# Altium integrated library Actel ProASIC3.IntLib: 427 symbols (part 10 of 68)
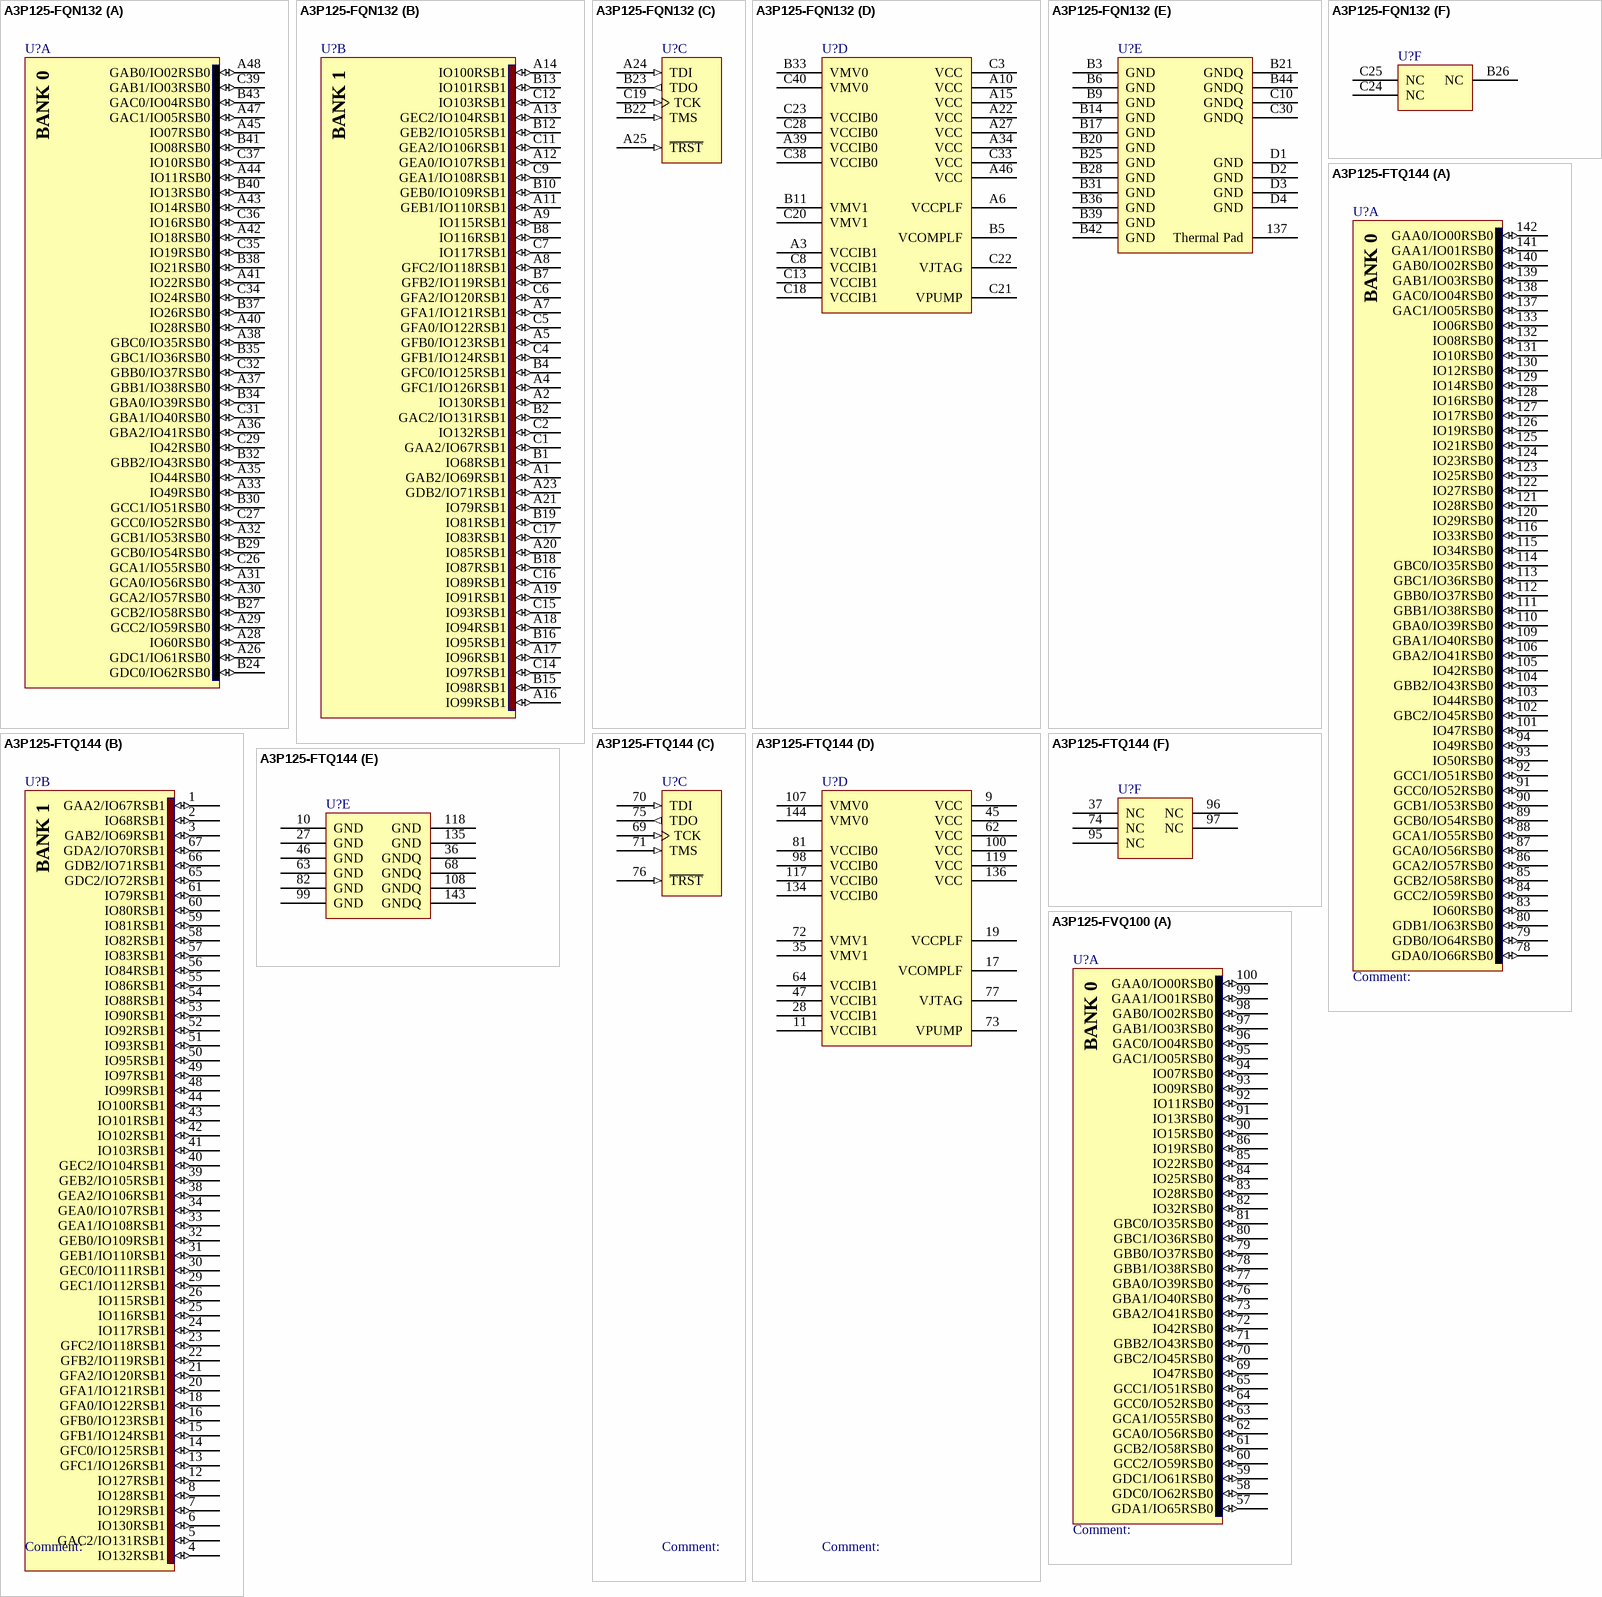
[diagram p405: symbols A3P125-FQN132 to A3P125-FVQ100]

## A3P125-FQN132
designator U?
ProASIC3 Flash Family FPGA, 84 User IOs, 125K System Gates, 36 Kbits RAM, 1 Kbit ProASIC3 Flash ROM, 1 PLL, 132-Pin QFN, Commercial Grade; Published: 30-Mar-2007; DatasheetVersion: v1.1, Feb-2009; PackageVersion: v11.0, Feb-2009; PackageReference: QN132; Publisher: Altium Limited; PackageDescription: 132-Pin Quad Flat Pack No-Leads (QN132); ComponentLink1Description: Manufacturer Link; ComponentLink1URL: http://www.actel.com/products/pa3/; ComponentLink2Description: Datasheet; ComponentLink2URL: http://www.actel.com/documents/PA3_DS.pdf; ComponentLink3Description: Packaging Specification; ComponentLink3URL: http://www.actel.com/documents/PckgMechDrwngs.pdf
footprint QN132 (QFN, 132-Leads, Body 8x8mm, Pitch 0.5mm)
3D model A3P125-QN132 (132-Pin Quad Flat Pack No-Leads (QN132))
signal-integrity model A3P125_QN132 (ProASIC3)
part A pins:  A26 GDC1/IO61RSB0 (io),  A28 IO60RSB0 (io),  A29 GCC2/IO59RSB0 (io),  A30 GCA2/IO57RSB0 (io),  A31 GCA0/IO56RSB0 (io),  A32 GCB1/IO53RSB0 (io),  A33 IO49RSB0 (io),  A35 IO44RSB0 (io),  A36 GBA2/IO41RSB0 (io),  A37 GBB1/IO38RSB0 (io),  A38 GBC0/IO35RSB0 (io),  A40 IO28RSB0 (io),  A41 IO22RSB0 (io),  A42 IO18RSB0 (io),  A43 IO14RSB0 (io),  A44 IO11RSB0 (io),  A45 IO07RSB0 (io),  A47 GAC1/IO05RSB0 (io),  A48 GAB0/IO02RSB0 (io),  B24 GDC0/IO62RSB0 (io),  B27 GCB2/IO58RSB0 (io),  B29 GCB0/IO54RSB0 (io),  B30 GCC1/IO51RSB0 (io),  B32 GBB2/IO43RSB0 (io),  B34 GBA0/IO39RSB0 (io),  B35 GBC1/IO36RSB0 (io),  B37 IO26RSB0 (io),  B38 IO21RSB0 (io),  B40 IO13RSB0 (io),  B41 IO08RSB0 (io),  B43 GAC0/IO04RSB0 (io),  C26 GCA1/IO55RSB0 (io),  C27 GCC0/IO52RSB0 (io),  C29 IO42RSB0 (io),  C31 GBA1/IO40RSB0 (io),  C32 GBB0/IO37RSB0 (io),  C34 IO24RSB0 (io),  C35 IO19RSB0 (io),  C36 IO16RSB0 (io),  C37 IO10RSB0 (io),  C39 GAB1/IO03RSB0 (io)
part B pins:  A1 GAB2/IO69RSB1 (io),  A2 IO130RSB1 (io),  A4 GFC1/IO126RSB1 (io),  A5 GFB0/IO123RSB1 (io),  A7 GFA1/IO121RSB1 (io),  A8 GFC2/IO118RSB1 (io),  A9 IO115RSB1 (io),  A11 GEB1/IO110RSB1 (io),  A12 GEA0/IO107RSB1 (io),  A13 GEC2/IO104RSB1 (io),  A14 IO100RSB1 (io),  A16 IO99RSB1 (io),  A17 IO96RSB1 (io),  A18 IO94RSB1 (io),  A19 IO91RSB1 (io),  A20 IO85RSB1 (io),  A21 IO79RSB1 (io),  A23 GDB2/IO71RSB1 (io),  B1 IO68RSB1 (io),  B2 GAC2/IO131RSB1 (io),  B4 GFC0/IO125RSB1 (io),  B7 GFB2/IO119RSB1 (io),  B8 IO116RSB1 (io),  B10 GEB0/IO109RSB1 (io),  B12 GEB2/IO105RSB1 (io),  B13 IO101RSB1 (io),  B15 IO98RSB1 (io),  B16 IO95RSB1 (io),  B18 IO87RSB1 (io),  B19 IO81RSB1 (io),  C1 GAA2/IO67RSB1 (io),  C2 IO132RSB1 (io),  C4 GFB1/IO124RSB1 (io),  C5 GFA0/IO122RSB1 (io),  C6 GFA2/IO120RSB1 (io),  C7 IO117RSB1 (io),  C9 GEA1/IO108RSB1 (io),  C11 GEA2/IO106RSB1 (io),  C12 IO103RSB1 (io),  C14 IO97RSB1 (io),  C15 IO93RSB1 (io),  C16 IO89RSB1 (io),  C17 IO83RSB1 (io)
part C pins:  A24 TDI (in),  A25 ~{TRST} (in),  B22 TMS (in),  B23 TDO (out),  C19 TCK (in)
part D pins:  A3 VCCIB1 (power),  A6 VCCPLF (power),  A10 VCC (power),  A15 VCC (power),  A22 VCC (power),  A27 VCC (power),  A34 VCC (power),  A39 VCCIB0 (power),  A46 VCC (power),  B5 VCOMPLF (power),  B33 VMV0 (power),  C3 VCC (power),  C8 VCCIB1 (power),  C13 VCCIB1 (power),  C18 VCCIB1 (power),  C20 VMV1 (power),  C21 VPUMP (power),  C22 VJTAG (power),  C23 VCCIB0 (power),  C28 VCCIB0 (power),  C33 VCC (power),  C38 VCCIB0 (power), B11 VMV1 (power), C40 VMV0 (power)
part E pins: 137 Thermal Pad (power),  B3 GND (power),  B6 GND (power),  B9 GND (power),  B14 GND (power),  B17 GND (power),  B20 GND (power),  B21 GNDQ (power),  B25 GND (power),  B28 GND (power),  B31 GND (power),  B36 GND (power),  B39 GND (power),  B42 GND (power),  B44 GNDQ (power),  C10 GNDQ (power),  C30 GNDQ (power),  D1 GND (power),  D2 GND (power),  D3 GND (power),  D4 GND (power)
part F pins: B26 NC, C24 NC, C25 NC
part A text: BANK 0
part B text: BANK 1

## A3P125-FTQ144
designator U?
ProASIC3 Flash Family FPGA, 100 User IOs, 125K System Gates, 36 Kbits RAM, 1 Kbit Flash ROM, 1 PLL, 144-Pin TQFP, Commercial Grade; Published: 4-Mar-2005; LatestRevisionDate: 13-Apr-2006; LatestRevisionNote: IPC-7351 Footprint Added.; DatasheetVersion: v1.1, Feb-2009; PackageVersion: v11.0, Feb-2009; PackageReference: TQ144; Publisher: Altium Limited; PackageDescription: 144-Pin Plastic Quad Flat Pack (TQ144); Code_JEDEC: MS-026-BFB; ComponentLink1Description: Manufacturer Link; ComponentLink1URL: http://www.actel.com/products/pa3/; ComponentLink2Description: Datasheet; ComponentLink2URL: http://www.actel.com/documents/PA3_DS.pdf; ComponentLink3Description: Packaging Specification; ComponentLink3URL: http://www.actel.com/documents/PckgMechDrwngs.pdf
footprint TQ144_N (Thin QFP, 144-Leads, Body 20x20mm, Pitch 0.5mm, IPC Medium Density)
footprint TQ144_L (Thin QFP, 144-Leads, Body 20x20mm, Pitch 0.5mm, IPC High Density)
footprint TQ144_M (Thin QFP, 144-Leads, Body 20x20mm, Pitch 0.5mm, IPC Low Density)
3D model A3P125-TQ144 (144-Pin Plastic Quad Flat Pack (TQ144))
signal-integrity model A3P125_TQ144 (ProASIC3)
part A pins: 78 GDA0/IO66RSB0 (io), 79 GDB0/IO64RSB0 (io), 80 GDB1/IO63RSB0 (io), 83 IO60RSB0 (io), 84 GCC2/IO59RSB0 (io), 85 GCB2/IO58RSB0 (io), 86 GCA2/IO57RSB0 (io), 87 GCA0/IO56RSB0 (io), 88 GCA1/IO55RSB0 (io), 89 GCB0/IO54RSB0 (io), 90 GCB1/IO53RSB0 (io), 91 GCC0/IO52RSB0 (io), 92 GCC1/IO51RSB0 (io), 93 IO50RSB0 (io), 94 IO49RSB0 (io), 101 IO47RSB0 (io), 102 GBC2/IO45RSB0 (io), 103 IO44RSB0 (io), 104 GBB2/IO43RSB0 (io), 105 IO42RSB0 (io), 106 GBA2/IO41RSB0 (io), 109 GBA1/IO40RSB0 (io), 110 GBA0/IO39RSB0 (io), 111 GBB1/IO38RSB0 (io), 112 GBB0/IO37RSB0 (io), 113 GBC1/IO36RSB0 (io), 114 GBC0/IO35RSB0 (io), 115 IO34RSB0 (io), 116 IO33RSB0 (io), 120 IO29RSB0 (io), 121 IO28RSB0 (io), 122 IO27RSB0 (io), 123 IO25RSB0 (io), 124 IO23RSB0 (io), 125 IO21RSB0 (io), 126 IO19RSB0 (io), 127 IO17RSB0 (io), 128 IO16RSB0 (io), 129 IO14RSB0 (io), 130 IO12RSB0 (io), 131 IO10RSB0 (io), 132 IO08RSB0 (io), 133 IO06RSB0 (io), 137 GAC1/IO05RSB0 (io), 138 GAC0/IO04RSB0 (io), 139 GAB1/IO03RSB0 (io), 140 GAB0/IO02RSB0 (io), 141 GAA1/IO01RSB0 (io), 142 GAA0/IO00RSB0 (io)
part B pins: 1 GAA2/IO67RSB1 (io), 2 IO68RSB1 (io), 3 GAB2/IO69RSB1 (io), 4 IO132RSB1 (io), 5 GAC2/IO131RSB1 (io), 6 IO130RSB1 (io), 7 IO129RSB1 (io), 8 IO128RSB1 (io), 12 IO127RSB1 (io), 13 GFC1/IO126RSB1 (io), 14 GFC0/IO125RSB1 (io), 15 GFB1/IO124RSB1 (io), 16 GFB0/IO123RSB1 (io), 18 GFA0/IO122RSB1 (io), 20 GFA1/IO121RSB1 (io), 21 GFA2/IO120RSB1 (io), 22 GFB2/IO119RSB1 (io), 23 GFC2/IO118RSB1 (io), 24 IO117RSB1 (io), 25 IO116RSB1 (io), 26 IO115RSB1 (io), 29 GEC1/IO112RSB1 (io), 30 GEC0/IO111RSB1 (io), 31 GEB1/IO110RSB1 (io), 32 GEB0/IO109RSB1 (io), 33 GEA1/IO108RSB1 (io), 34 GEA0/IO107RSB1 (io), 38 GEA2/IO106RSB1 (io), 39 GEB2/IO105RSB1 (io), 40 GEC2/IO104RSB1 (io), 41 IO103RSB1 (io), 42 IO102RSB1 (io), 43 IO101RSB1 (io), 44 IO100RSB1 (io), 48 IO99RSB1 (io), 49 IO97RSB1 (io), 50 IO95RSB1 (io), 51 IO93RSB1 (io), 52 IO92RSB1 (io), 53 IO90RSB1 (io), 54 IO88RSB1 (io), 55 IO86RSB1 (io), 56 IO84RSB1 (io), 57 IO83RSB1 (io), 58 IO82RSB1 (io), 59 IO81RSB1 (io), 60 IO80RSB1 (io), 61 IO79RSB1 (io), 65 GDC2/IO72RSB1 (io), 66 GDB2/IO71RSB1 (io), 67 GDA2/IO70RSB1 (io)
part C pins: 69 TCK (in), 70 TDI (in), 71 TMS (in), 75 TDO (out), 76 ~{TRST} (in)
part D pins: 9 VCC (power), 11 VCCIB1 (power), 17 VCOMPLF (power), 19 VCCPLF (power), 28 VCCIB1 (power), 35 VMV1 (power), 45 VCC (power), 47 VCCIB1 (power), 62 VCC (power), 64 VCCIB1 (power), 72 VMV1 (power), 73 VPUMP (power), 77 VJTAG (power), 81 VCCIB0 (power), 98 VCCIB0 (power), 100 VCC (power), 107 VMV0 (power), 117 VCCIB0 (power), 119 VCC (power), 134 VCCIB0 (power), 136 VCC (power), 144 VMV0 (power)
part E pins: 10 GND (power), 27 GND (power), 36 GNDQ (power), 46 GND (power), 63 GND (power), 68 GNDQ (power), 82 GND (power), 99 GND (power), 108 GNDQ (power), 118 GND (power), 135 GND (power), 143 GNDQ (power)
part F pins: 37 NC, 74 NC, 95 NC, 96 NC, 97 NC
part A text: BANK 0
part B text: BANK 1

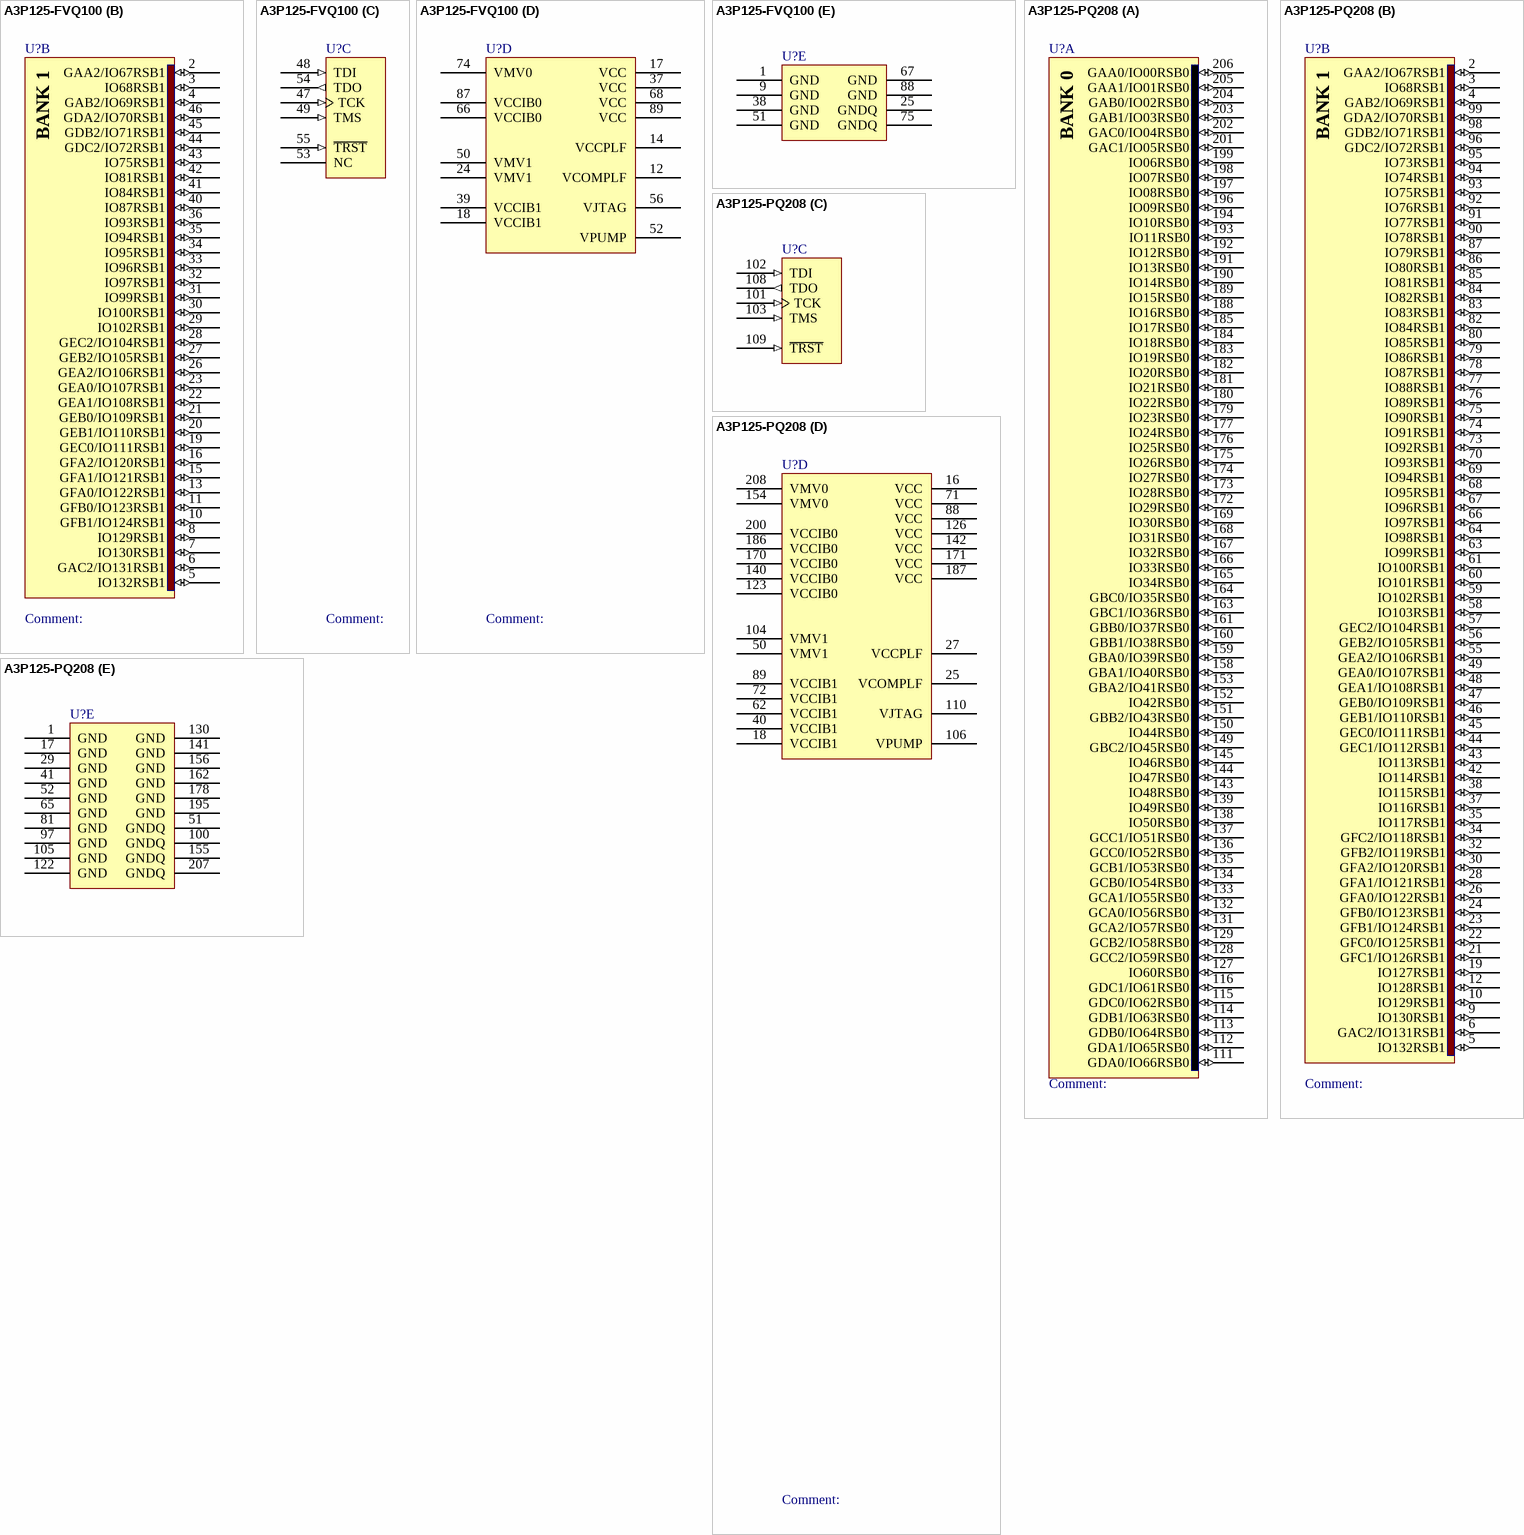
[diagram p44: symbols A3P125-FVQ100 to A3P125-PQ208]